# Altium footprint library 天线.PcbLib: 19 footprints (part 1 of 2)
Each footprint in its own frame and in the unit in brackets; x right, y up, seen from the top. Pads: shape width x height; smd on the part's side, far side on the other; paste and mask are expansions set on the pad; w line width, h text height; cw(c..) or ccw(c..) is an arc to the next point about the centre after c.
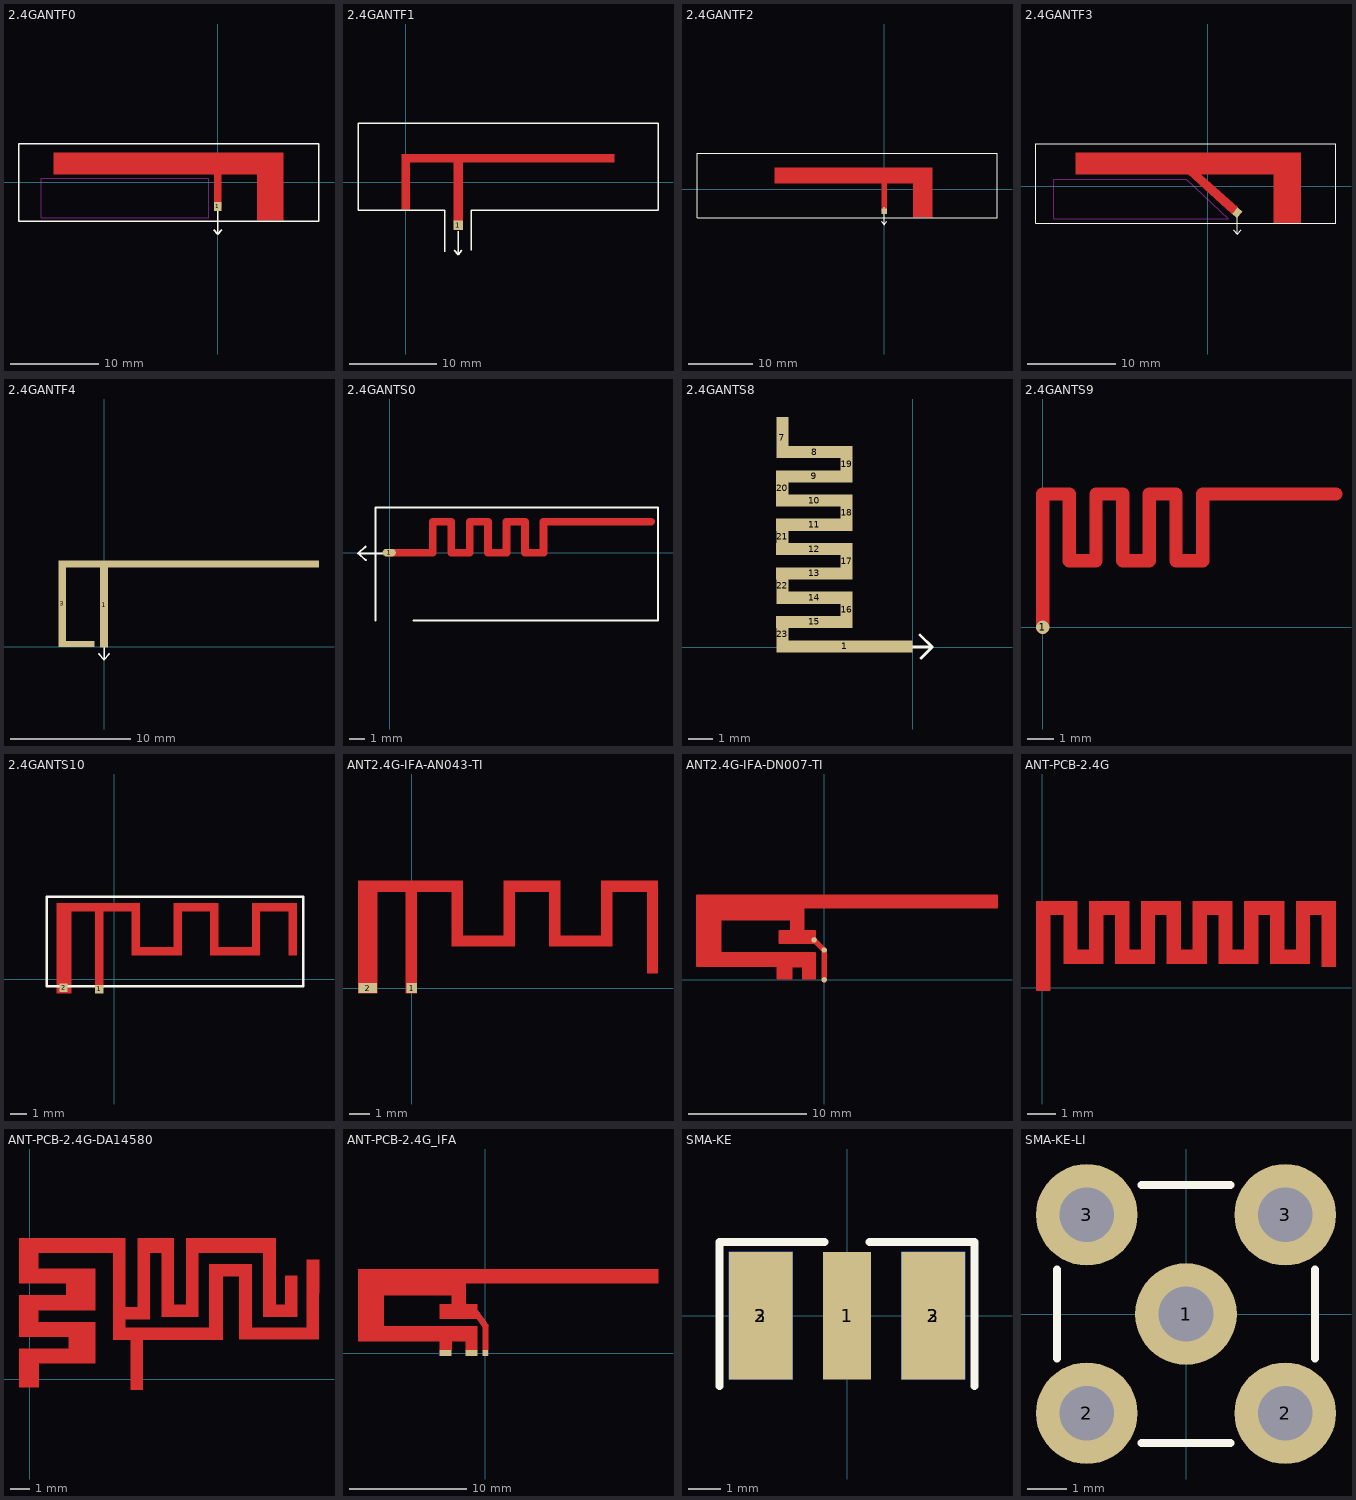
[diagram p0: the footprints below, top view; thin cyan lines are the x and y axes]

## 2.4GANTF0 [mil]
pads (1):
  rect 33x39.37 smd: 1(0,-107)
Top Layer:
  rectangle: 176.18,-170.28 294.29,133.86
  rectangle: -17,-110 17,133.86
  rectangle: -733.27,35.43 294.29,133.86
Top Overlay:
  lines w6: -18.11,-211.81 -0.39,-231.5 ; -0.39,-125.59 -0.39,-231.5 ; 16.93,-211.42 -0.39,-231.5 ; -886.81,-173.23 451.77,-173.23 451.77,173.23 -886.81,173.23 -886.81,-173.23
Keep-Out Layer:
  lines w5: -787.4,-157.48 -787.4,19.68 -39.37,19.68 -39.37,-157.48 -787.4,-157.48

## 2.4GANTF1 [mil]
pads (1):
  rect 42x42 smd: 1(237,-195)
Top Layer:
  rectangle: -19.68,-125 19.68,127.95
  rectangle: 216,-180 258,127.95
  rectangle: -19.68,88.58 944.88,127.95
Top Overlay:
  lines w6: 177.17,-316 177.17,-127.95 -216.54,-127.95 -216.54,265.75 1141.73,265.75 1141.73,-127.95 295.28,-127.95 295.28,-309 ; 219.29,-308.27 237.01,-327.95 ; 237.01,-222.05 237.01,-327.95 ; 254.33,-307.87 237.01,-327.95

## 2.4GANTF2 [mil]
pads (1):
  rect 34x34 smd: 1(0,-134)
Top Layer:
  rectangle: -670.28,35.43 294.29,133.86
  rectangle: -17,-133.86 17,133.86
  rectangle: 176.18,-170.28 294.29,133.86
Top Overlay:
  lines w5: -18.9,-195.28 -1.18,-214.96 ; -1.18,-109.06 -1.18,-214.96 ; 16.14,-194.88 -1.18,-214.96 ; -1142.72,-173.23 -1142.72,220.47 687.99,220.47 687.99,-173.23 -1142.72,-173.23

## 2.4GANTF3 [mil]
pads (1):
  rect 39.37x30 smd rot 48: 1(131,-118)
Top Layer:
  rectangle: 293,-164 415,150
  rectangle: -589.65,51.37 414.29,149.8
  region: 107.75,-123.72 134.21,-94.33 -66.91,86.76 -93.37,57.37
Top Overlay:
  lines w5: 114.17,-194.09 131.89,-213.78 ; 131.89,-107.87 131.89,-213.78 ; 149.21,-193.7 131.89,-213.78 ; -766.81,-165.17 571.77,-165.17 571.77,189.17 -766.81,189.17 -766.81,-165.17
Keep-Out Layer:
  lines w5: -688.07,-145.48 91,-145.48 -97,32 -688.07,31.68 -688.07,-145.48

## 2.4GANTF4 [mm]
pads (4):
  rect 0.65x7 smd: 1(-0.013,3.472)
  rect 3x0.5 smd: 2(-2.325,0.246)
  rect 0.64x7.2 smd: 3(-3.5,3.609)
  rect 21.7x0.6 smd: 4(7.024,6.909)
Top Overlay:
  lines w0.127: -0.47,-0.57 -0.02,-1.07 ; -0.02,-0.06 -0.02,-1.07 ; 0.42,-0.56 -0.02,-1.07

## 2.4GANTS0 [mil]
pads (1):
  oval 34x19.68 smd: 1(-1,0)
Top Layer:
  lines w19.68: 0,0 110.24,0 110.24,78.74 157.48,78.74 157.48,0 204.72,0 204.72,78.74 251.97,78.74 251.97,0 299.21,0 299.21,78.74 346.46,78.74 346.46,0 393.7,0 393.7,78.74 669.29,78.74
Top Overlay:
  lines w5: -61.06,15.75 -80.74,-1.97 ; -60.66,-19.29 -80.74,-1.97 ; -35.92,-173.86 -35.92,115.75 686.61,115.75 686.61,-173.86 61.09,-173.86 ; -12.99,-1.97 -80.74,-1.97

## 2.4GANTS8 [mm]
pads (18):
  rect 5.58x0.5 smd: 1(-2.788,0.028)
  rect 0.5x1.702 smd: 7(-5.369,8.647)
  rect 3.15x0.5 smd: 8(-4.043,8.046) 9(-4.05,7.045) 10(-4.05,6.046) 11(-4.05,5.048) 12(-4.05,4.041) 13(-4.05,3.041) 14(-4.048,2.038) 15(-4.05,1.036)
  rect 0.5x1.5 smd: 16(-2.725,1.535) 17(-2.725,3.541) 18(-2.725,5.548) 19(-2.72,7.545) 20(-5.375,6.546) 21(-5.375,4.546) 22(-5.373,2.541) 23(-5.375,0.528)
Top Overlay:
  lines w0.127: -0.34,0 0.81,0 ; 0.31,0.5 0.81,0 ; 0.36,-0.45 0.81,0

## 2.4GANTS9 [mm]
pads (1):
  round 0.5 smd: 1(0,0)
Top Layer:
  lines w0.5: 0,0 0,5 1,5 1,2.5 2,2.5 2,4.96 ; 2,5 3,5 3,2.5 4,2.5 4,4.99 ; 4,5 5,5 5,2.5 6,2.5 6,5 11,5

## 2.4GANTS10 [mm]
pads (14):
  rect 0.5x0.5 smd mask+0.003: 1(-0.914,-0.584)
  rect 0.5x0.5 smd: 2(-3.048,-0.508)
  rect 0.5x0.5 on Top Solder mask+0: ""(-3.214,4.316)
  rect 0.5x0.5 on Top Solder mask+0.003: ""(-0.914,3.816) ""(1.286,1.676) ""(1.286,4.316) ""(3.786,1.676) ""(3.786,4.316) ""(5.986,1.676) ""(5.986,4.316) ""(8.486,1.676) ""(8.486,4.316) ""(10.686,1.676) ""(10.686,4.316)
Top Layer:
  region: 6.236,1.426 6.236,4.566 5.736,4.566 5.736,1.426
  region: 6.236,4.066 6.236,4.566 3.535,4.566 3.535,4.066
  region: 4.036,1.426 4.036,4.566 3.535,4.566 3.535,1.426
  region: 4.036,1.426 4.036,1.926 1.036,1.926 1.036,1.426
  region: -2.564,-0.834 -2.564,4.566 -3.463,4.566 -3.463,-0.834
  region: -0.664,-0.492 -0.664,4.316 -1.165,4.316 -1.165,-0.492
  region: 1.536,1.426 1.536,4.566 1.036,4.566 1.036,1.426
  region: 8.736,1.426 8.736,4.566 8.236,4.566 8.236,1.426
  region: 6.035,1.926 6.035,1.426 8.736,1.426 8.736,1.926
  region: 10.936,4.067 10.936,4.566 8.236,4.566 8.236,4.067
  region: 10.936,1.426 10.936,4.566 10.436,4.566 10.436,1.426
  lines w0.5: -3.214,4.316 1.286,4.316
Top Overlay:
  lines w0.15: -4.039,-0.409 11.311,-0.409 11.311,4.941 -4.039,4.941 -4.039,-0.409
Top Solder:
  lines w0.5: -3.214,4.316 1.286,4.316 1.286,1.676 3.786,1.676 3.786,4.316 5.986,4.316 5.986,1.676 8.486,1.676 8.486,4.316 10.686,4.316 10.686,1.676 ; -0.914,-0.584 -0.914,4.316
  lines w0.9: -3.014,-0.384 -3.014,4.116

## ANT2.4G-IFA-AN043-TI [mm] "IFA for WIFI/Bluetooth"
pads (2):
  rect 0.5x0.5 smd: 1(0,0)
  rect 0.9x0.5 smd: 2(-2.1,0)
Top Layer:
  region: -2.575,5.165 -2.575,-0.25 -1.65,-0.25 -1.65,4.64 -0.276,4.64 -0.276,-0.25 0.25,-0.25 0.25,4.64 1.925,4.64 1.925,2 4.95,2 4.95,4.64 6.624,4.64 6.624,2 9.65,2 9.65,4.64 11.324,4.64 11.324,0.7 11.85,0.7 11.85,0.715 11.85,0.716 11.85,5.163 11.848,5.165 9.125,5.165 9.125,2.525 7.15,2.525 7.15,5.165 4.425,5.165 4.425,2.525 2.45,2.525 2.45,5.165

## ANT2.4G-IFA-DN007-TI [mil] "IFA for CC2530/CC2540"
pads (4):
  round 18 smd: 1(-33.61,132.87) 1(0,0) 1(0,99.26) 1(0,99.26)
Top Layer:
  lines w8: -424,49 -31,49 ; -424,57 -31,57 ; -424,65 -31,65 ; -424,73 -31,73 ; -424,81 -31,81 ; -424,89 -31,89 ; -424,97 -345.96,97 ; -424,105 -345.96,105 ; -424,113 -345.96,113 ; -424,121 -345.96,121 ; -424,129 -345.96,129 ; -424,137 -345.96,137 ; -424,145 -345.96,145 ; -424,153 -345.96,153 ; -424,161 -345.96,161 ; -424,169 -345.96,169 ; -424,177 -345.96,177 ; -424,185 -345.96,185 ; -424,193 -345.96,193 ; -424,201 -345.96,201 ; -424,209 -70.37,209 ; -424,217 -70.37,217 ; -424,225 -70.37,225 ; -424,233 -70.37,233 ; -424,241 -70.37,241 ; -424,249 576,249 ; -424,257 576,257 ; -424,265 576,265 ; -424,273 576,273 ; -155,9 -109.74,9 ; -155,17 -109.74,17 ; -155,25 -109.74,25 ; -155,33 -109.74,33 ; -155,41 -109.74,41 ; -149.11,129 -31,129 ; -149.11,137 -31,137 ; -149.11,145 -31,145 ; -149.11,153 -31,153 ; -149.11,161 -31,161 ; -109.74,169 -70.37,169 ; -109.74,177 -70.37,177 ; -109.74,185 -70.37,185 ; -109.74,193 -70.37,193 ; -109.74,201 -70.37,201 ; -70.37,9 -31,9 ; -70.37,17 -31,17 ; -70.37,25 -31,25 ; -70.37,33 -31,33 ; -70.37,41 -31,41 ; -31,89 -31,5 -70.37,5 -70.37,44.37 -109.74,44.37 -109.74,5 -155,5 -155,46 -403,47 -424,47 -424,281 576,281 576,241.22 -70.37,241.22 -70.37,162.48 -31,162.48 -31,123.11 -149.11,123.11 -149.11,162.48 -109.74,162.48 -109.74,201.85 -345.96,201.85 -345.96,89 -31,89
  lines w18: -33.61,132.87 0,99.26 0,0

## ANT-PCB-2.4G [mm]
Top Layer:
  region: -0.211,3.023 -0.211,2.523 1.239,2.523 1.239,3.023
  region: 0.739,1.323 0.739,0.823 2.139,0.823 2.139,1.323
  rectangle: -0.211,-0.109 0.289,3.023
  region: 1.239,3.023 0.739,3.023 0.739,0.823 1.239,0.823
  region: 3.039,3.023 2.539,3.023 2.539,0.823 3.039,0.823
  region: 2.539,1.323 2.539,0.823 3.939,0.823 3.939,1.323
  region: 2.139,3.023 1.639,3.023 1.639,0.823 2.139,0.823
  region: 1.639,3.023 1.639,2.523 3.039,2.523 3.039,3.023
  region: 4.339,1.323 4.339,0.823 5.739,0.823 5.739,1.323
  region: 4.839,3.023 4.339,3.023 4.339,0.823 4.839,0.823
  region: 6.139,1.323 6.139,0.823 7.539,0.823 7.539,1.323
  region: 7.939,1.323 7.939,0.823 9.339,0.823 9.339,1.323
  region: 5.739,3.023 5.239,3.023 5.239,0.823 5.739,0.823
  region: 10.239,3.023 9.739,3.023 9.739,0.723 10.239,0.723
  region: 3.439,3.023 3.439,2.523 4.839,2.523 4.839,3.023
  region: 6.639,3.023 6.139,3.023 6.139,0.823 6.639,0.823
  region: 5.239,3.023 5.239,2.523 6.639,2.523 6.639,3.023
  region: 7.539,3.023 7.039,3.023 7.039,0.823 7.539,0.823
  region: 8.439,3.023 7.939,3.023 7.939,0.823 8.439,0.823
  region: 9.339,3.023 8.839,3.023 8.839,0.823 9.339,0.823
  region: 7.039,3.023 7.039,2.523 8.439,2.523 8.439,3.023
  region: 8.839,3.023 8.839,2.523 10.239,2.523 10.239,3.023
  region: 3.939,3.023 3.439,3.023 3.439,0.823 3.939,0.823

## ANT-PCB-2.4G-DA14580 [mm]
Top Layer:
  region: 5.316,-0.565 5.316,2.065 5.946,2.065 5.946,-0.565
  region: -0.554,-0.435 -0.554,0.835 0.466,0.835 0.466,-0.435
  region: -0.554,0.835 3.436,0.835 0.466,0.835
  region: -0.554,0.835 -0.554,1.595 3.436,1.595 3.436,0.835
  region: -0.554,1.595 2.046,1.595 3.436,1.595
  region: 5.316,2.065 10.136,2.065 5.946,2.065
  region: 5.316,2.065 4.396,2.065 10.136,2.065
  region: 15.186,2.085 11.006,2.085 15.186,2.085
  region: 2.046,1.595 2.046,2.225 3.436,2.225 3.436,1.595
  region: 2.046,2.225 -0.564,2.225 3.436,2.225
  region: 4.396,2.065 4.396,2.705 10.136,2.705 10.136,2.065
  region: 11.006,2.085 11.006,2.705 15.186,2.705 15.186,2.085
  region: 5.026,2.705 9.436,2.705 10.136,2.705
  region: 11.656,2.705 14.546,2.705 15.186,2.705
  region: -0.564,2.225 -0.564,2.995 3.436,2.995 3.436,2.225
  region: -0.564,2.995 0.456,2.995 3.436,2.995
  region: 4.396,2.705 4.396,3.145 5.026,3.145 5.026,2.705
  region: 4.396,3.145 6.296,3.145 5.026,3.145
  region: 8.836,3.275 6.936,3.275 8.836,3.275
  region: 14.046,3.275 12.266,3.275 14.046,3.275
  region: -0.564,2.995 -0.564,3.625 0.456,3.625 0.456,2.995
  region: -0.564,3.625 3.436,3.625 0.456,3.625
  region: 4.396,3.145 4.396,3.785 6.296,3.785 6.296,3.145
  region: 5.026,3.785 5.666,3.785 6.296,3.785
  region: 6.936,3.275 6.936,3.915 8.836,3.915 8.836,3.275
  region: 12.266,3.275 12.266,3.915 14.046,3.915 14.046,3.275
  region: 7.566,3.915 8.206,3.915 8.836,3.915
  region: 12.906,3.915 13.406,3.915 14.046,3.915
  region: -0.564,3.625 -0.564,4.395 3.436,4.395 3.436,3.625
  region: -0.564,4.395 1.916,4.395 3.436,4.395
  region: 1.916,4.395 1.916,5.025 3.436,5.025 3.436,4.395
  region: 1.916,5.025 -0.564,5.025 3.436,5.025
  region: 9.436,2.705 9.436,5.395 10.136,5.395 10.136,2.705
  region: 9.436,5.395 11.006,5.395 10.136,5.395
  region: 11.006,2.705 11.006,5.395 11.656,5.395 11.656,2.705
  region: 13.406,3.915 13.406,5.435 14.046,5.435 14.046,3.915
  region: 13.406,5.435 14.046,5.435
  region: -0.564,5.025 -0.564,5.785 3.436,5.785 3.436,5.025
  region: -0.564,5.785 0.456,5.785 3.436,5.785
  region: 9.436,5.395 9.436,6.045 11.656,6.045 11.656,5.395
  region: 9.436,6.045 11.656,6.045
  region: 14.546,2.705 14.546,6.275 15.186,6.275 15.186,2.705
  region: 14.546,6.275 15.186,6.275
  region: -0.564,5.785 -0.564,6.645 0.456,6.645 0.456,5.785
  region: 5.666,3.785 5.666,6.645 6.296,6.645 6.296,3.785
  region: 8.206,3.915 8.206,6.645 8.836,6.645 8.836,3.915
  region: -0.564,6.645 4.396,6.645 0.456,6.645
  region: 4.396,3.785 4.396,6.645 5.026,6.645 5.026,3.785
  region: 5.666,6.645 6.936,6.645 6.296,6.645
  region: 6.936,3.915 6.936,6.645 7.566,6.645 7.566,3.915
  region: 8.206,6.645 12.266,6.645 8.836,6.645
  region: 12.266,3.915 12.266,6.645 12.906,6.645 12.906,3.915
  region: -0.564,6.645 -0.564,7.405 5.026,7.405 5.026,6.645
  region: 5.666,6.645 5.666,7.405 7.566,7.405 7.566,6.645
  region: 8.206,6.645 8.206,7.405 12.906,7.405 12.906,6.645
  region: -0.564,7.405 5.026,7.405
  region: 5.666,7.405 7.566,7.405
  region: 8.206,7.405 12.906,7.405

## ANT-PCB-2.4G_IFA [mm]
pads (3):
  rect 0.46x0.5 smd: 1(0,0)
  rect 1x0.5 smd: 2(-1.18,0) 3(-3.38,0)
Top Layer:
  region: -10.86,0.99 -10.86,7.16 14.72,7.16 14.72,5.95 -1.68,5.95 -1.68,4.15 -0.68,4.15 -0.68,3.648 0.23,2.328 0.23,0.25 -0.23,0.25 -0.23,2.185 -0.751,2.94 -3.88,2.94 -3.88,4.15 -2.88,4.15 -2.88,4.95 -8.68,4.95 -8.68,2.28 -0.68,2.28 -0.68,0.25 -1.68,0.25 -1.68,0.99 -2.88,0.99 -2.88,0.25 -3.88,0.25 -3.88,0.99
Mechanical 11:
  text "3" at -3.46,0 h0.2
  text "2" at -1.26,0 h0.2
  text "1" at -0.08,0 h0.2
Mechanical 13:
  lines w0.025: -0.68,3.648 0.23,2.328
Mechanical 16:
  lines w0.025: -3.88,-0.25 -3.88,0.25 ; 0.23,-0.25 0.23,0.25
  text "2011-09-19" at -10.645,1.157 h0.2
  text "ROBERT MITAL" at -10.645,1.907 h0.2
  text "MICHAL BLACHUCKI" at -10.645,1.507 h0.2

## SMA-KE [mm] "SMA 偏脚射频天线座"
pads (5):
  rect 1.5x4 smd: 1(0,0)
  rect 2x4 smd: 2(-2.7,0) 2(2.7,0)
  rect 2x4 smd far side: 3(-2.7,0) 3(2.7,0)
Top Overlay:
  lines w0.254: -4,-2.2 -4,2.3 -0.7,2.3 ; 0.7,2.3 4,2.3 4,-2.2
3D body: height 3.75, standoff -2.76, extent -3.25,-1.3 3.25,12.2

## SMA-KE-LI [mm] "SMA 立式直插射频天线座"
pads (5):
  round 2.6 hole 1.4 unplated: 1(0,0) 2(-2.54,-2.54) 2(2.54,-2.54) 3(-2.54,2.54) 3(2.54,2.54)
Top Overlay:
  lines w0.203: -3.302,-1.143 -3.302,1.143 ; -1.143,-3.302 1.143,-3.302 ; -1.143,3.302 1.143,3.302 ; 3.302,-1.143 3.302,1.143
3D body: height 10.35, standoff -3.16, extent -3.25,-3.25 3.25,3.25